# EAGLE library part MICROBUILDER_TCA9548A (library CR1000X MUX)
TCA9548A I2C Multiplexer
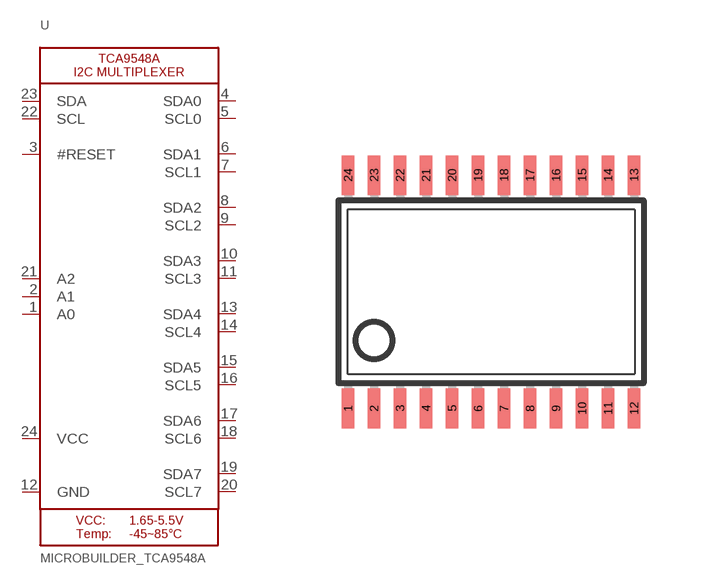
[diagram p5: symbol with the pads of MICROBUILDER_TSSOP24; footprint MICROBUILDER_TSSOP24]

Designator prefix U

## MICROBUILDER_TCA9548A  [MICROBUILDER_TSSOP24]
1  A0
2  A1
3  #RESET
4  SDA0
5  SCL0
6  SDA1
7  SCL1
8  SDA2
9  SCL2
10  SDA3
11  SCL3
12  GND
13  SDA4
14  SCL4
15  SDA5
16  SCL5
17  SDA6
18  SCL6
19  SDA7
20  SCL7
21  A2
22  SCL
23  SDA
24  VCC

## Footprint MICROBUILDER_TSSOP24 (pad centres in mm)
smd 0.305 x 0.991: 1 -3.575,-2.918; 2 -2.925,-2.918; 3 -2.275,-2.918; 4 -1.625,-2.918; 5 -0.975,-2.918; 6 -0.325,-2.918; 7 0.325,-2.918; 8 0.975,-2.918; 9 1.625,-2.918; 10 2.275,-2.918; 11 2.925,-2.918; 12 3.575,-2.918; 13 3.575,2.918; 14 2.925,2.918; 15 2.275,2.918; 16 1.625,2.918; 17 0.975,2.918; 18 0.325,2.918; 19 -0.325,2.918; 20 -0.975,2.918; 21 -1.625,2.918; 22 -2.275,2.918; 23 -2.925,2.918; 24 -3.575,2.918